# Altium footprint library parts.PCBLIB: 93 footprints (part 5 of 6)
Each footprint in its own frame and in the unit in brackets; x right, y up, seen from the top. Pads: shape width x height; smd on the part's side, far side on the other; paste and mask are expansions set on the pad; w line width, h text height; cw(c..) or ccw(c..) is an arc to the next point about the centre after c.
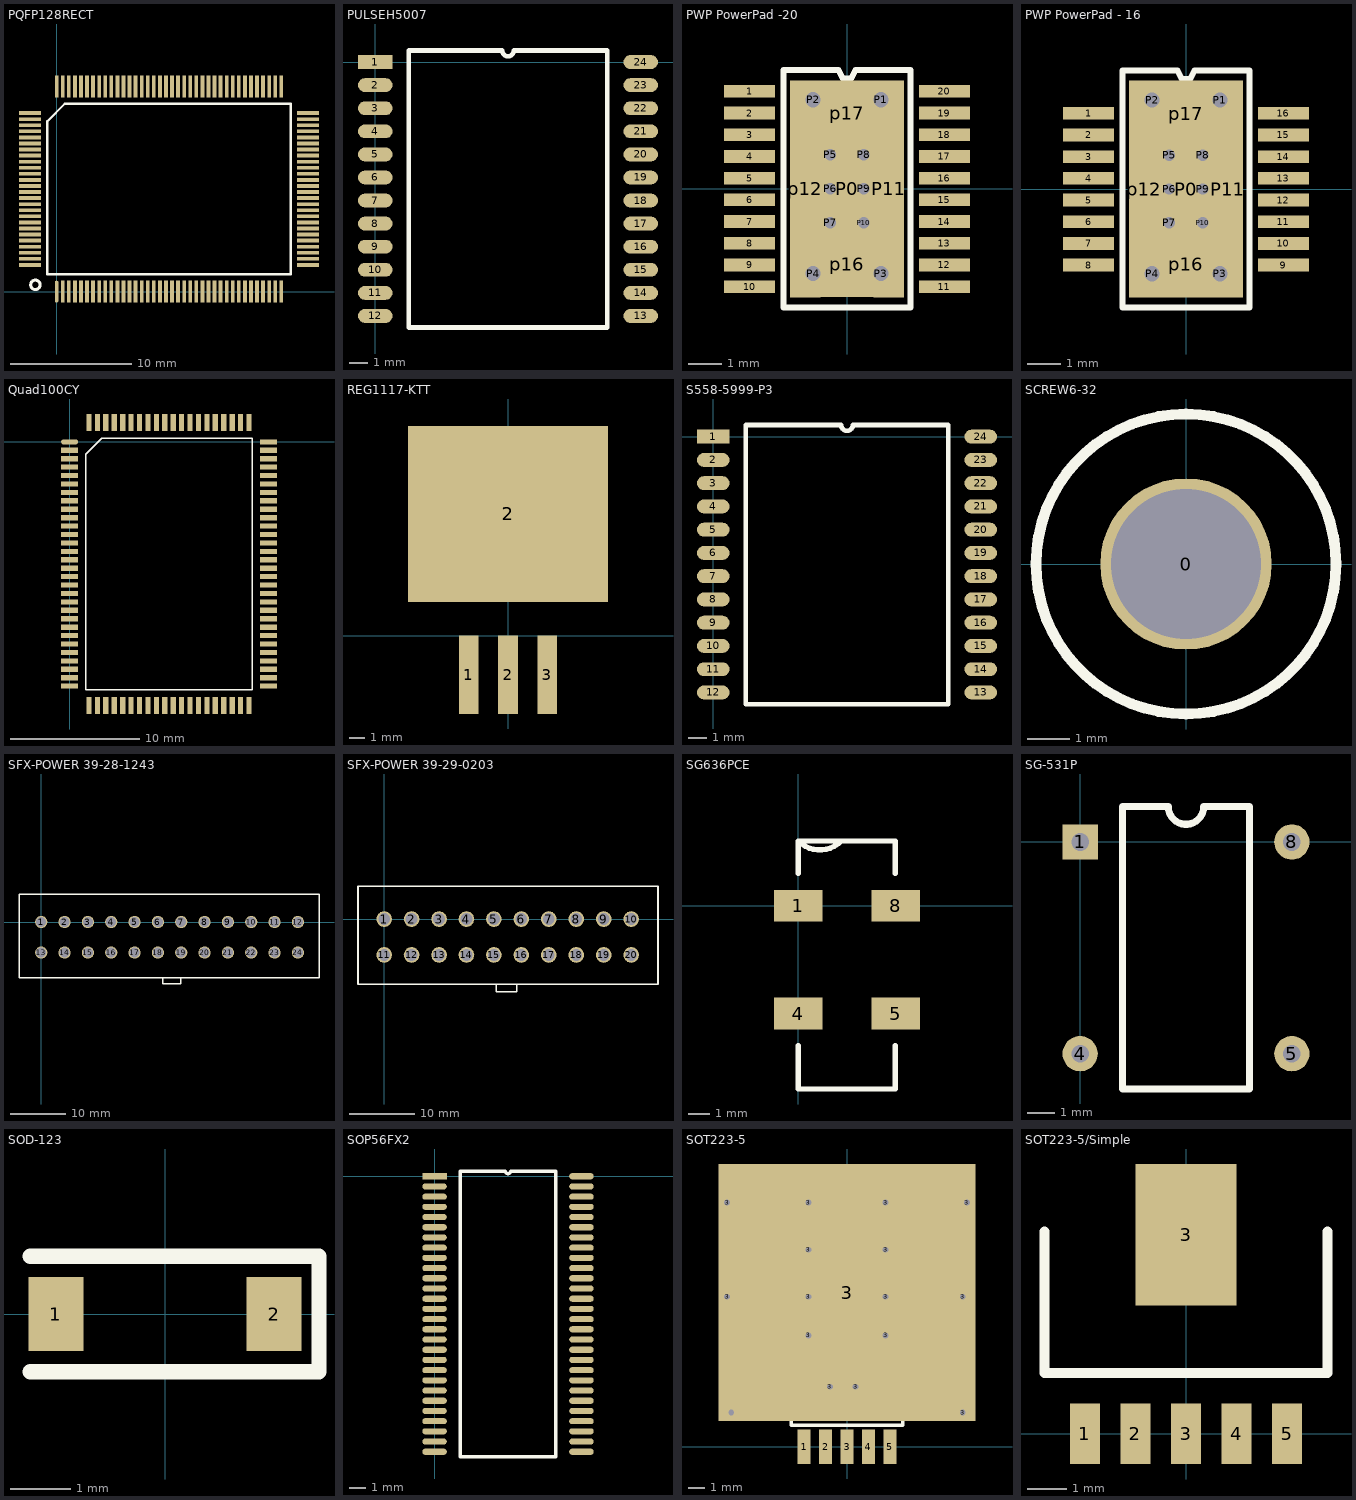
[diagram p4: the footprints below, top view; thin cyan lines are the x and y axes]

## PQFP128RECT [mm]
pads (128):
  oval 0.31x1.8 smd: 1(0,0)
  rect 0.31x1.8 smd: 2(0.5,0) 3(1,0) 4(1.5,0) 5(2,0) 6(2.5,0) 7(3,0) 8(3.5,0) 9(4,0) 10(4.5,0) 11(5,0) 12(5.5,0) 13(6,0) 14(6.5,0) 15(7,0) 16(7.5,0) 17(8,0) 18(8.5,0) 19(9,0) 20(9.5,0) 21(10,0) 22(10.5,0) 23(11,0) 24(11.5,0) 25(12,0) 26(12.5,0) 27(13,0) 28(13.5,0) 29(14,0) 30(14.5,0) 31(15,0) 32(15.5,0) 33(16,0) 34(16.5,0) 35(17,0) 36(17.5,0) 37(18,0) 38(18.5,0) 65(18.5,16.9) 66(18,16.9) 67(17.5,16.9) 68(17,16.9) 69(16.5,16.9) 70(16,16.9) 71(15.5,16.9) 72(15,16.9) 73(14.5,16.9) 74(14,16.9) 75(13.5,16.9) 76(13,16.9) 77(12.5,16.9) 78(12,16.9) 79(11.5,16.9) 80(11,16.9) 81(10.5,16.9) 82(10,16.9) 83(9.5,16.9) 84(9,16.9) 85(8.5,16.9) 86(8,16.9) 87(7.5,16.9) 88(7,16.9) 89(6.5,16.9) 90(6,16.9) 91(5.5,16.9) 92(5,16.9) 93(4.5,16.9) 94(4,16.9) 95(3.5,16.9) 96(3,16.9) 97(2.5,16.9) 98(2,16.9) 99(1.5,16.9) 100(1,16.9) 101(0.5,16.9) 102(0,16.9)
  rect 1.8x0.31 smd: 39(20.7,2.2) 40(20.7,2.7) 41(20.7,3.2) 42(20.7,3.7) 43(20.7,4.2) 44(20.7,4.7) 45(20.7,5.2) 46(20.7,5.7) 47(20.7,6.2) 48(20.7,6.7) 49(20.7,7.2) 50(20.7,7.7) 51(20.7,8.2) 52(20.7,8.7) 53(20.7,9.2) 54(20.7,9.7) 55(20.7,10.2) 56(20.7,10.7) 57(20.7,11.2) 58(20.7,11.7) 59(20.7,12.2) 60(20.7,12.7) 61(20.7,13.2) 62(20.7,13.7) 63(20.7,14.2) 64(20.7,14.7) 103(-2.2,14.7) 104(-2.2,14.2) 105(-2.2,13.7) 106(-2.2,13.2) 107(-2.2,12.7) 108(-2.2,12.2) 109(-2.2,11.7) 110(-2.2,11.2) 111(-2.2,10.7) 112(-2.2,10.2) 113(-2.2,9.7) 114(-2.2,9.2) 115(-2.2,8.7) 116(-2.2,8.2) 117(-2.2,7.7) 118(-2.2,7.2) 119(-2.2,6.7) 120(-2.2,6.2) 121(-2.2,5.7) 122(-2.2,5.2) 123(-2.2,4.7) 124(-2.2,4.2) 125(-2.2,3.7) 126(-2.2,3.2) 127(-2.2,2.7) 128(-2.2,2.2)
TopOverlay:
  circle w0.254: c-1.753,0.559 r0.388
  lines w0.2: -0.765,1.435 -0.765,14.03 0.67,15.465 19.265,15.465 19.265,1.435 -0.765,1.435

## PULSEH5007 [mil]
pads (24):
  rect 75x30 smd: 1(0,0)
  oval 75x30 smd: 2(0,-50) 3(0,-100) 4(0,-150) 5(0,-200) 6(0,-250) 7(0,-300) 8(0,-350) 9(0,-400) 10(0,-450) 11(0,-500) 12(0,-550) 13(575,-550) 14(575,-500) 15(575,-450) 16(575,-400) 17(575,-350) 18(575,-300) 19(575,-250) 20(575,-200) 21(575,-150) 22(575,-100) 23(575,-50) 24(575,0)
TopOverlay:
  lines w10: 72.5,-575 502.5,-575 502.5,25 300,25 cw(c287.5,25) 275,25 72.5,25 72.5,-575

## PWP PowerPad -20 [mil]
pads (35):
  rect 60x15 smd: 1(-115,115) 2(-115,89.4) 3(-115,63.8) 4(-115,38.2) 5(-115,12.6) 6(-115,-13) 7(-115,-38.6) 8(-115,-64.2) 9(-115,-89.8) 10(-115,-115.4) 11(115,-115.4) 12(115,-89.8) 13(115,-64.2) 14(115,-38.6) 15(115,-13) 16(115,12.6) 17(115,38.2) 18(115,63.8) 19(115,89.4) 20(115,115)
  rect 62x101 smd paste+0 mask+0: P0(0,0)
  round 20 hole 18 mask-20: P1(40,105) P2(-40,105) P3(40,-100) P4(-40,-100)
  round 20 hole 13.5 mask-20: P5(-20,40) P6(-20,0) P7(-20,-40) P8(20,40) P9(20,0) P10(20,-40)
  rect 36x256 smd mask+0: P11(49,0) p12(-49,0)
  rect 62x77.5 smd mask+0: p16(0,-89) p17(0,89)
TopOverlay:
  lines w7: -75,-140 -75,140 -10,140 -5,130 5,130 10,140 15,140 75,140 75,-140 -75,-140

## PWP PowerPad - 16 [mil]
pads (31):
  rect 60x15 smd: 1(-115,89.4) 2(-115,63.8) 3(-115,38.2) 4(-115,12.6) 5(-115,-13) 6(-115,-38.6) 7(-115,-64.2) 8(-115,-89.8) 9(115,-89.8) 10(115,-64.2) 11(115,-38.6) 12(115,-13) 13(115,12.6) 14(115,38.2) 15(115,63.8) 16(115,89.4)
  rect 62x101 smd paste+0 mask+0: P0(0,0)
  round 20 hole 18 mask-20: P1(40,105) P2(-40,105) P3(40,-100) P4(-40,-100)
  round 20 hole 13.5 mask-20: P5(-20,40) P6(-20,0) P7(-20,-40) P8(20,40) P9(20,0) P10(20,-40)
  rect 36x256 smd mask+0: P11(49,0) p12(-49,0)
  rect 62x77.5 smd mask+0: p16(0,-89) p17(0,89)
TopOverlay:
  lines w7: -75,-140 -75,140 -10,140 -5,130 5,130 10,140 15,140 75,140 75,-140 -75,-140

## Quad100CY [mm]
pads (100):
  oval 1.3x0.4 smd: 1(0,0)
  rect 1.3x0.4 smd: 2(0,-0.65) 3(0,-1.3) 4(0,-1.95) 5(0,-2.6) 6(0,-3.25) 7(0,-3.9) 8(0,-4.55) 9(0,-5.2) 10(0,-5.85) 11(0,-6.5) 12(0,-7.15) 13(0,-7.8) 14(0,-8.45) 15(0,-9.1) 16(0,-9.75) 17(0,-10.4) 18(0,-11.05) 19(0,-11.7) 20(0,-12.35) 21(0,-13) 22(0,-13.65) 23(0,-14.3) 24(0,-14.95) 25(0,-15.6) 26(0,-16.25) 27(0,-16.9) 28(0,-17.55) 29(0,-18.2) 30(0,-18.85) 51(15.35,-18.85) 52(15.35,-18.2) 53(15.35,-17.55) 54(15.35,-16.9) 55(15.35,-16.25) 56(15.35,-15.6) 57(15.35,-14.95) 58(15.35,-14.3) 59(15.35,-13.65) 60(15.35,-13) 61(15.35,-12.35) 62(15.35,-11.7) 63(15.35,-11.05) 64(15.35,-10.4) 65(15.35,-9.75) 66(15.35,-9.1) 67(15.35,-8.45) 68(15.35,-7.8) 69(15.35,-7.15) 70(15.35,-6.5) 71(15.35,-5.85) 72(15.35,-5.2) 73(15.35,-4.55) 74(15.35,-3.9) 75(15.35,-3.25) 76(15.35,-2.6) 77(15.35,-1.95) 78(15.35,-1.3) 79(15.35,-0.65) 80(15.35,0)
  rect 0.4x1.3 smd: 31(1.5,-20.35) 32(2.15,-20.35) 33(2.8,-20.35) 34(3.45,-20.35) 35(4.1,-20.35) 36(4.75,-20.35) 37(5.4,-20.35) 38(6.05,-20.35) 39(6.7,-20.35) 40(7.35,-20.35) 41(8,-20.35) 42(8.65,-20.35) 43(9.3,-20.35) 44(9.95,-20.35) 45(10.6,-20.35) 46(11.25,-20.35) 47(11.9,-20.35) 48(12.55,-20.35) 49(13.2,-20.35) 50(13.85,-20.35) 81(13.85,1.5) 82(13.2,1.5) 83(12.55,1.5) 84(11.9,1.5) 85(11.25,1.5) 86(10.6,1.5) 87(9.95,1.5) 88(9.3,1.5) 89(8.65,1.5) 90(8,1.5) 91(7.35,1.5) 92(6.7,1.5) 93(6.05,1.5) 94(5.4,1.5) 95(4.75,1.5) 96(4.1,1.5) 97(3.45,1.5) 98(2.8,1.5) 99(2.15,1.5) 100(1.5,1.5)
TopOverlay:
  lines w0.1: 1.235,-19.115 14.115,-19.115 14.115,0.265 2.47,0.265 1.235,-0.97 1.235,-19.115

## REG1117-KTT [mil] "KTT package for TI voltage Reg"
pads (4):
  rect 50x200 smd: 1(-100,-100) 2(0,-100) 3(100,-100)
  rect 510x450 smd: 2(0,310)

## S558-5999-P3 [mil]
pads (24):
  rect 70x30 smd: 1(0,0)
  oval 70x30 smd: 2(0,-50) 3(0,-100) 4(0,-150) 5(0,-200) 6(0,-250) 7(0,-300) 8(0,-350) 9(0,-400) 10(0,-450) 11(0,-500) 12(0,-550) 13(575,-550) 14(575,-500) 15(575,-450) 16(575,-400) 17(575,-350) 18(575,-300) 19(575,-250) 20(575,-200) 21(575,-150) 22(575,-100) 23(575,-50) 24(575,0)
TopOverlay:
  lines w10: 70,-575 505,-575 505,25 300,25 cw(c287.5,25) 275,25 70,25 70,-575

## SCREW6-32 [mil] "6-32 screw"
pads (1):
  round 160 hole 140 paste-20 mask+30: 0(0,0)
TopOverlay:
  circle w10: c0,0 r140
BottomOverlay:
  circle w10: c0,0 r140

## SFX-POWER 39-28-1243 [mm] "Molex Power connector for SFX PSU part 39-28-1243"
pads (24):
  round 2.2 hole 1.8: 1(0,0) 2(4.2,0) 3(8.4,0) 4(12.6,0) 5(16.8,0) 6(21,0) 7(25.2,0) 8(29.4,0) 9(33.6,0) 10(37.8,0) 11(42,0) 12(46.2,0) 13(0,-5.5) 14(4.2,-5.5) 15(8.4,-5.5) 16(12.6,-5.5) 17(16.8,-5.5) 18(21,-5.5) 19(25.2,-5.5) 20(29.4,-5.5) 21(33.6,-5.5) 22(37.8,-5.5) 23(42,-5.5) 24(46.2,-5.5)
TopOverlay:
  lines w0.254: 21.907,-10 21.907,-11.112 25.082,-11.112 25.082,-10 ; -4,-10 -4,5 50,5 50,-10 -4,-10

## SFX-POWER 39-29-0203 [mm] "ATX/SFX power connector, 20 pin version"
pads (20):
  round 2.4 hole 1.8: 1(0,0) 2(4.2,0) 3(8.4,0) 4(12.6,0) 5(16.8,0) 6(21,0) 7(25.2,0) 8(29.4,0) 9(33.6,0) 10(37.8,0) 11(0,-5.5) 12(4.2,-5.5) 13(8.4,-5.5) 14(12.6,-5.5) 15(16.8,-5.5) 16(21,-5.5) 17(25.2,-5.5) 18(29.4,-5.5) 19(33.6,-5.5) 20(37.8,-5.5)
TopOverlay:
  lines w0.254: 17.145,-10 17.145,-11.112 20.32,-11.112 20.32,-10 ; -4,-10 41.91,-10 41.91,5 -4,5 -4,-10

## SG636PCE [mm]
pads (4):
  rect 2.3x1.5 smd: 1(0,0) 4(0,-5.08) 5(4.6,-5.08) 8(4.6,0)
TopOverlay:
  lines w0.254: 0,-6.604 0,-8.636 4.572,-8.636 4.572,-6.604 ; 0,1.524 0,3.048 ; 2.032,3.048 cw(c1.016,4.064) 0,3.048 ; 4.572,1.524 4.572,3.048 0,3.048

## SG-531P [mil]
pads (4):
  rect 50x50 hole 25: 1(0,0)
  round 50 hole 25: 4(0,-300) 5(300,-300) 8(300,0)
TopOverlay:
  lines w10: 60,-350 240,-350 240,50 175,50 cw(c150,50) 125,50 60,50 60,-350

## SOD-123 [mm]
pads (2):
  rect 0.91x1.22 smd: 1(-1.8,0) 2(1.8,0)
TopOverlay:
  lines w0.254: -2.222,-0.953 2.54,-0.953 2.54,0.953 -2.222,0.953

## SOP56FX2 [mil]
pads (56):
  rect 60x15 smd: 1(0,0)
  oval 60x15 smd: 2(0,-25) 3(0,-50) 4(0,-75) 5(0,-100) 6(0,-125) 7(0,-150) 8(0,-175) 9(0,-200) 10(0,-225) 11(0,-250) 12(0,-275) 13(0,-300) 14(0,-325) 15(0,-350) 16(0,-375) 17(0,-400) 18(0,-425) 19(0,-450) 20(0,-475) 21(0,-500) 22(0,-525) 23(0,-550) 24(0,-575) 25(0,-600) 26(0,-625) 27(0,-650) 28(0,-675) 29(360,-675) 30(360,-650) 31(360,-625) 32(360,-600) 33(360,-575) 34(360,-550) 35(360,-525) 36(360,-500) 37(360,-475) 38(360,-450) 39(360,-425) 40(360,-400) 41(360,-375) 42(360,-350) 43(360,-325) 44(360,-300) 45(360,-275) 46(360,-250) 47(360,-225) 48(360,-200) 49(360,-175) 50(360,-150) 51(360,-125) 52(360,-100) 53(360,-75) 54(360,-50) 55(360,-25) 56(360,0)
TopOverlay:
  lines w8: 63,-687.5 297,-687.5 297,12.5 186.25,12.5 cw(c180,12.5) 173.75,12.5 63,12.5 63,-687.5

## SOT223-5 [mil] "TI SOT223-5  (DCQ Package)"
pads (22):
  rect 30x80 smd: 1(-100,0) 2(-50,0) 3(0,0) 4(50,0) 5(100,0)
  round 20 on Top Overlay hole 13.5: 3(-280,350) 3(-280,570) 3(-90,260) 3(-90,350) 3(-90,460) 3(-90,570) 3(-40,140) 3(20,140) 3(90,260) 3(90,350) 3(90,460) 3(90,570) 3(270,80) 3(270,350) 3(280,570) 13(-270,80)
  rect 600x600 smd: 3(0,360)
TopOverlay:
  lines w8: -130,50 -130,170 0,170 130,170 130,50 -130,50

## SOT223-5/Simple [mil] "SOT-223 without large heatsink"
pads (6):
  rect 30x60 smd: 1(-100,0) 2(-50,0) 3(0,0) 4(50,0) 5(100,0)
  rect 100x140 smd: 3(0,196.85)
TopOverlay:
  lines w10: -140,200 -140,60 140,60 140,200